# Altium footprint library BMS_Link_Rev0.PcbLib: 16 footprints
Each footprint in its own frame and in the unit in brackets; x right, y up, seen from the top. Pads: shape width x height; smd on the part's side, far side on the other; paste and mask are expansions set on the pad; w line width, h text height; cw(c..) or ccw(c..) is an arc to the next point about the centre after c.
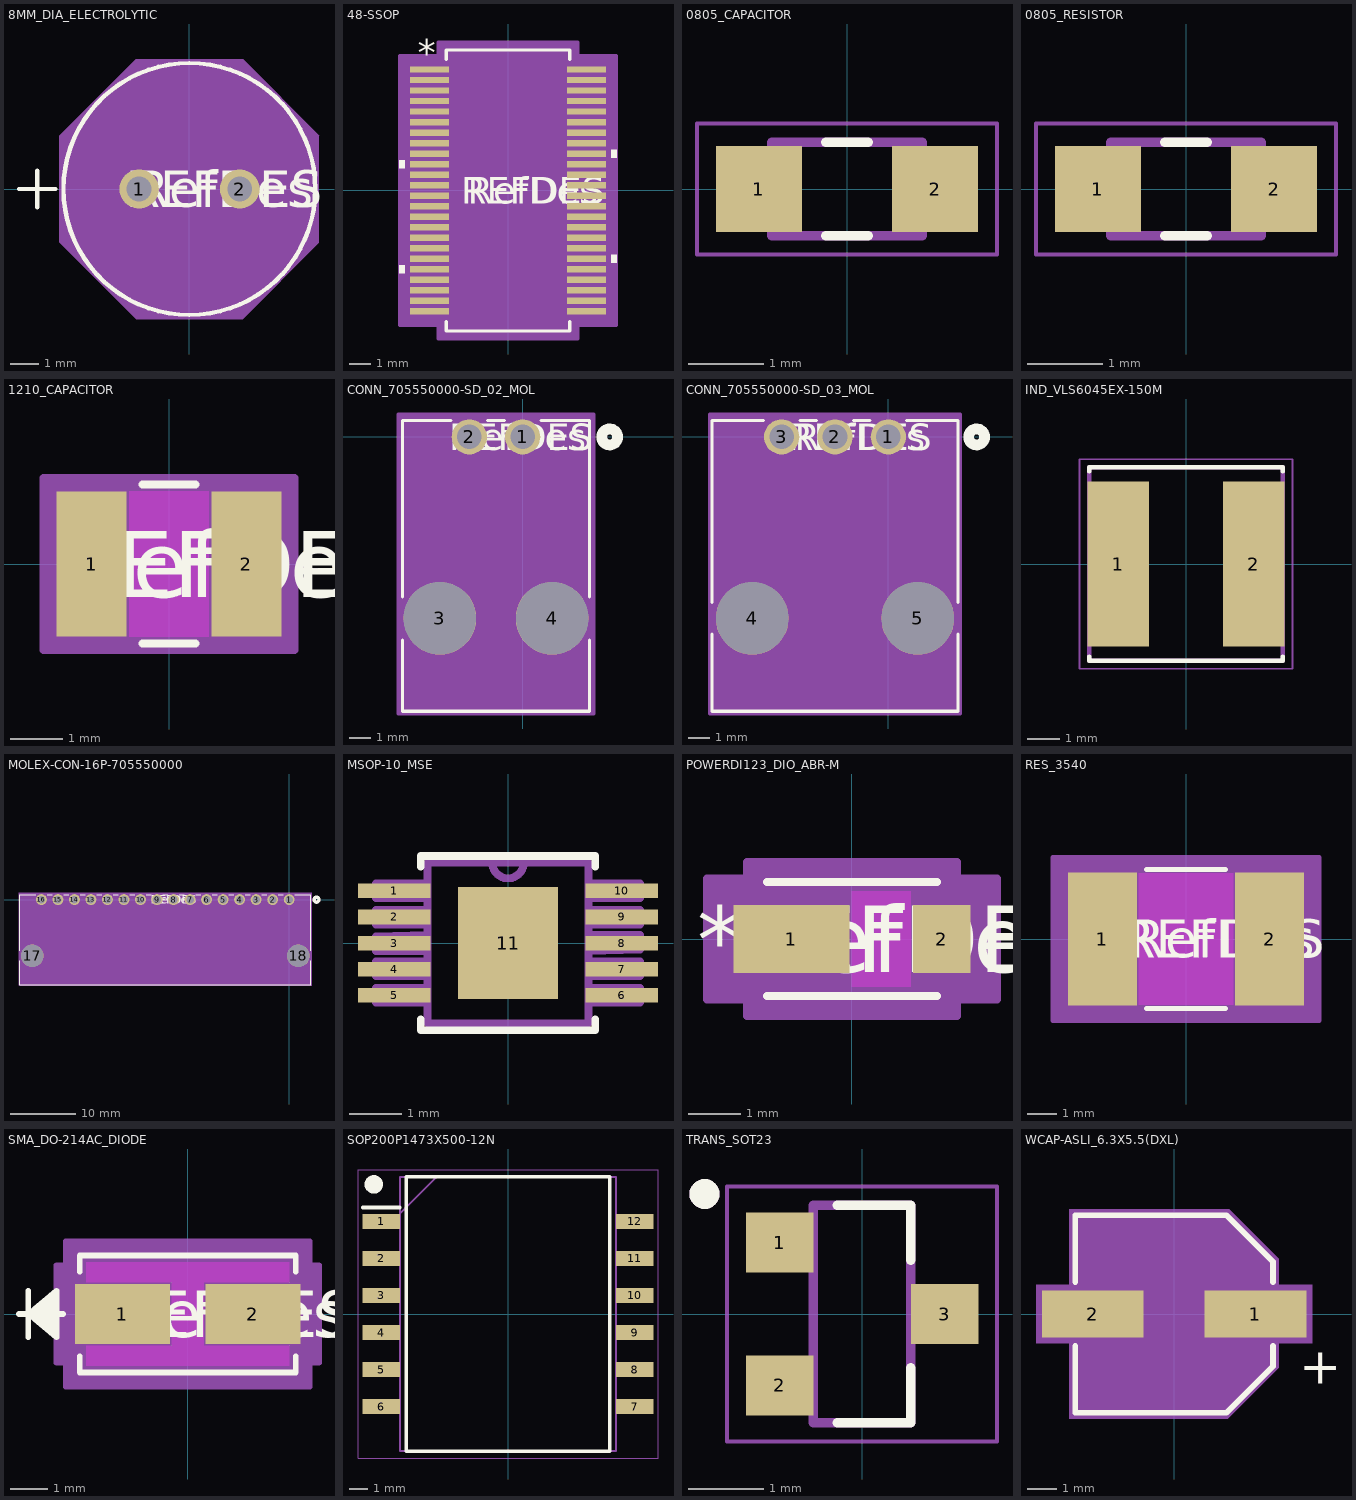
[diagram p0: the footprints below, top view; thin cyan lines are the x and y axes]

## 8MM_DIA_ELECTROLYTIC [mil] "Used by: / - 50YXJ100MT78X11.5 /  / 8 mm diameter by 11 mm height electrolytic capacitor footprint. 3.5 mm inter-pin spacing."
pads (2):
  round 54 / inner round 60 / far side round 54 hole 34 paste-99999 mask+0: 1(-69.02,0) 2(68.78,0)
Top Overlay:
  circle w6: c-0.12,0 r172.5
  lines w6: -233.52,0 -183.52,0 ; -208.52,-25 -208.52,25
  text "RefDes" at -75.12,-25 h50
  text "REFDES" at -87.62,-25 h50
Mechanical 13:
  circle w0: c-0.12,0 r167.5
  lines w1: -164.63,0 -114.63,0 ; -139.63,-25 -139.63,25
  text "RefDes2" at -87.62,-25 h50
Mechanical 15:
  region: -177.62,73.09 -73.21,177.5 72.97,177.5 177.38,73.09 177.38,-73.09 72.97,-177.5 -73.21,-177.5 -177.62,-73.09
  lines w1: -177.62,-73.09 -73.21,-177.5 72.97,-177.5 177.38,-73.09 177.38,73.09 72.97,177.5 -73.21,177.5 -177.62,73.09 -177.62,-73.09
3D body "CAP_YX_8X11P5_RUB.step": height 512.6, standoff -172.01, extent -167.6,-167.38 168.42,167.38

## 48-SSOP [mil] "Used By:"
pads (48):
  rect 72.65x12 smd paste+0 mask+0: 1(-146.83,226.38) 2(-146.83,206.69) 3(-146.83,187.01) 4(-146.83,167.32) 5(-146.83,147.64) 6(-146.83,127.95) 7(-146.83,108.27) 8(-146.83,88.58) 9(-146.83,68.9) 10(-146.83,49.21) 11(-146.83,29.53) 12(-146.83,9.84) 13(-146.83,-9.84) 14(-146.83,-29.53) 15(-146.83,-49.21) 16(-146.83,-68.9) 17(-146.83,-88.58) 18(-146.83,-108.27) 19(-146.83,-127.95) 20(-146.83,-147.64) 21(-146.83,-167.32) 22(-146.83,-187.01) 23(-146.83,-206.69) 24(-146.83,-226.38) 25(146.83,-226.38) 26(146.83,-206.69) 27(146.83,-187.01) 28(146.83,-167.32) 29(146.83,-147.64) 30(146.83,-127.95) 31(146.83,-108.27) 32(146.83,-88.58) 33(146.83,-68.9) 34(146.83,-49.21) 35(146.83,-29.53) 36(146.83,-9.84) 37(146.83,9.84) 38(146.83,29.53) 39(146.83,49.21) 40(146.83,68.9) 41(146.83,88.58) 42(146.83,108.27) 43(146.83,127.95) 44(146.83,147.64) 45(146.83,167.32) 46(146.83,187.01) 47(146.83,206.69) 48(146.83,226.38)
Top Overlay:
  region: -193.15,56.71 -203.15,56.71 -203.15,41.71 -193.15,41.71
  region: -193.15,-140.14 -203.15,-140.14 -203.15,-155.14 -193.15,-155.14
  region: 193.15,-120.45 203.15,-120.45 203.15,-135.45 193.15,-135.45
  region: 193.15,76.4 203.15,76.4 203.15,61.4 193.15,61.4
  lines w6: -115.5,-245.48 -115.5,-263 115.5,-263 115.5,-245.48 ; -115.5,245.48 -115.5,263 115.5,263 115.5,245.48
  text "*" at -169.33,233.38 h50
  text "RefDes" at -75,-25 h50
  text "REFDES" at -87.5,-25 h50
Mechanical 13:
  drawing of 197 lines, arcs and shapes, not listed
  text "*" at -108,205 h50
  text "RefDes2" at -87.5,-25 h50
Mechanical 15:
  region: -130.5,-252.38 -203.15,-252.38 -203.15,252.38 -130.5,252.38 -130.5,278 130.5,278 130.5,252.38 203.15,252.38 203.15,-252.38 130.5,-252.38 130.5,-278 -130.5,-278
  lines w6: -203.15,-252.38 -203.15,252.38 -130.5,252.38 -130.5,278 130.5,278 130.5,252.38 203.15,252.38 203.15,-252.38 130.5,-252.38 130.5,-278 -130.5,-278 -130.5,-252.38 -203.15,-252.38
3D body "05-08-1887_ADI.step": height 79.09, standoff 0, extent -161.5,-257.99 161.5,257.99

## 0805_CAPACITOR [mm]
pads (2):
  rect 1.15x1.15 smd: 1(-1.175,0) 2(1.175,0)
Top Overlay:
  lines w0.127: -0.28,-0.625 0.28,-0.625 ; -0.28,0.625 0.28,0.625
Mechanical 13:
  lines w0.127: -1,-0.625 -1,0.625 1,0.625 1,-0.625 -1,-0.625
Mechanical 15:
  lines w0.05: -2,-0.875 -2,0.875 2,0.875 2,-0.875 -2,-0.875
3D body "0805_CAPACITOR.STEP": height 0.75, standoff 0, extent -1,-0.625 1,0.625

## 0805_RESISTOR [mm] "Default 0805 (2012 Metric) resistor PCB component."
pads (2):
  rect 1.15x1.15 smd: 1(-1.175,0) 2(1.175,0)
Top Overlay:
  lines w0.127: -0.28,-0.625 0.28,-0.625 ; -0.28,0.625 0.28,0.625
Mechanical 13:
  lines w0.127: -1,-0.625 -1,0.625 1,0.625 1,-0.625 -1,-0.625
Mechanical 15:
  lines w0.05: -2,-0.875 -2,0.875 2,0.875 2,-0.875 -2,-0.875
3D body "ERA-6AEB1183V.step": height 0.6, standoff 0, extent -1,-0.625 1,0.625

## 1210_CAPACITOR [mil]
pads (2):
  rect 53x110 smd paste+0 mask+0: 1(-58.5,0) 2(58.5,0)
Top Layer keep-out:
  region: -30,-53 -30,53 30,53 30,-53
Top Overlay:
  lines w6: -19.89,-60 19.89,-60 ; -19.89,60 19.89,60
  text "REFDES" at -87.5,-25 h50
  text "RefDes" at -75,-25 h50
Keep-Out Layer:
  region: -30,-55 -30,55 30,55 30,-55
Mechanical 13:
  lines w1: -71,-55 -71,55 ; -71,-55 71,-55 ; -71,-55 -32,-55 -32,55 -71,55 ; -71,-55 -71,55 ; -71,55 71,55 ; 71,-55 71,55 ; 71,-55 71,55 ; 71,-55 32,-55 32,55 71,55
  text "RefDes2" at -87.5,-25 h50
Mechanical 15:
  region: 95,-65 -95,-65 -95,65 95,65
  lines w6: -95,-65 95,-65 95,65 -95,65 -95,-65
3D body "CAP_CL32B_SAM.step": height 110, standoff 0, extent -70.98,-55 70.98,55

## CONN_705550000-SD_02_MOL [mil]
pads (4):
  round 66 / inner round 60 / far side round 66 hole 46 paste-99999 mask+0: 1(0,0) 2(-100,0)
  round 136 / inner round 60 / far side round 136 hole 136 unplated paste-99999 mask+0: 3(-155.12,-340.16) 4(55.12,-340.16)
Top Overlay:
  circle w20: c163.12,0 r15
  lines w6: -225.5,-380.45 -225.5,-514.41 125.5,-514.41 125.5,-380.45 ; -225.5,-299.86 -225.5,30.59 -134.49,30.59 ; -65.51,30.59 -34.49,30.59 ; 34.49,30.59 125.5,30.59 125.5,-299.86
  text "REFDES" at -137.5,-25 h50
  text "RefDes" at -125,-25 h50
Bottom Overlay:
  circle w20: c163.12,0 r15
Mechanical 13:
  circle w20: c0,0 r15
  lines w1: -220.5,-509.41 -220.5,25.59 120.5,25.59 120.5,-509.41 -220.5,-509.41
  text "RefDes2" at -137.5,-25 h50
Mechanical 15:
  region: 133.12,43 -233.12,43 -233.12,-519.41 133.12,-519.41
  lines w6: -233.12,-519.41 133.12,-519.41 133.12,43 -233.12,43 -233.12,-519.41
3D body "705550001.stp": height 278.11, standoff -126.89, extent -214.21,-508.46 115.79,26.54

## CONN_705550000-SD_03_MOL [mil]
pads (5):
  round 66 / inner round 60 / far side round 66 hole 46 paste-99999 mask+0: 1(0,0) 2(-100,0) 3(-200,0)
  round 136 / inner round 60 / far side round 136 hole 136 unplated paste-99999 mask+0: 4(-255.12,-340.16) 5(55.12,-340.16)
Top Overlay:
  circle w20: c165.5,0 r15
  lines w6: -330.5,-370.07 -330.5,-514.41 130.5,-514.41 130.5,-370.07 ; -330.5,-310.24 -330.5,30.59 -234.49,30.59 ; -165.51,30.59 -134.49,30.59 ; -65.51,30.59 -34.49,30.59 ; 34.49,30.59 130.5,30.59 130.5,-310.24
  text "RefDes" at -175,-25 h50
  text "REFDES" at -187.5,-25 h50
Bottom Overlay:
  circle w20: c165.5,0 r15
Mechanical 13:
  circle w20: c0,0 r15
  lines w1: -325.5,-509.41 125.5,-509.41 125.5,25.59 -325.5,25.59 -325.5,-509.41
  text "RefDes2" at -187.5,-25 h50
Mechanical 15:
  region: 135.5,43 -335.5,43 -335.5,-519.41 135.5,-519.41
  lines w6: -335.5,-519.41 -335.5,43 135.5,43 135.5,-519.41 -335.5,-519.41
3D body "705550002.stp": height 278.11, standoff -126.89, extent -323.43,-508.46 126.57,26.54

## IND_VLS6045EX-150M [mm]
height 4.5
pads (2):
  rect 1.9x5.1 smd: 1(-2.1,0) 2(2.1,0)
Top Overlay:
  lines w0.127: -3,-2.87 -3,-3 3,-3 3,-2.87 ; -3,2.87 -3,3 3,3 3,2.87
Mechanical 13:
  lines w0.127: -3,-3 -3,3 3,3 3,-3 -3,-3
Mechanical 15:
  lines w0.05: -3.3,-3.25 -3.3,3.25 3.3,3.25 3.3,-3.25 -3.3,-3.25
3D body "step_temp.STEP": height 4.5, standoff 0, extent -3,-3 3,3

## MOLEX-CON-16P-705550000 [mil]
pads (18):
  round 66 / inner round 60 / far side round 66 hole 46 paste-99999 mask+0: 1(0,0) 2(-100,0) 3(-200,0) 4(-300,0) 5(-400,0) 6(-500,0) 7(-600,0) 8(-700,0) 9(-800,0) 10(-900,0) 11(-1000,0) 12(-1100,0) 13(-1200,0) 14(-1300,0) 15(-1400,0) 16(-1500,0)
  round 136 / inner round 60 / far side round 136 hole 136 unplated paste-99999 mask+0: 17(-1555.12,-340.16) 18(55.12,-340.16)
Top Overlay:
  circle w20: c165.5,0 r15
  lines w6: -1630.5,-370.07 -1630.5,-514.41 130.5,-514.41 130.5,-370.07 ; -1630.5,-310.24 -1630.5,30.59 -1534.49,30.59 ; -1465.51,30.59 -1434.49,30.59 ; -1365.51,30.59 -1334.49,30.59 ; -1265.51,30.59 -1234.49,30.59 ; -1165.51,30.59 -1134.49,30.59 ; -1065.51,30.59 -1034.49,30.59 ; -965.51,30.59 -934.49,30.59 ; -865.51,30.59 -834.49,30.59 ; -765.51,30.59 -734.49,30.59 ; -665.51,30.59 -634.49,30.59 ; -565.51,30.59 -534.49,30.59 ; -465.51,30.59 -434.49,30.59 ; -365.51,30.59 -334.49,30.59 ; -265.51,30.59 -234.49,30.59 ; -165.51,30.59 -134.49,30.59 ; -65.51,30.59 -34.49,30.59 ; 34.49,30.59 130.5,30.59 130.5,-310.24
  text "RefDes" at -825,-25 h50
  text "REFDES" at -837.5,-25 h50
Bottom Overlay:
  circle w20: c165.5,0 r15
Mechanical 13:
  circle w20: c0,0 r15
  lines w1: -1625.5,-509.41 125.5,-509.41 125.5,25.59 -1625.5,25.59 -1625.5,-509.41
  text "RefDes2" at -837.5,-25 h50
Mechanical 15:
  region: 135.5,43 -1635.5,43 -1635.5,-519.41 135.5,-519.41
  lines w6: -1635.5,-519.41 -1635.5,43 135.5,43 135.5,-519.41 -1635.5,-519.41
3D body "705550015.stp": height 238.74, standoff -166.26, extent -1626.37,-506.96 123.63,28.04

## MSOP-10_MSE [mil] "Used By:  / - LT3991EMSE-5"
pads (11):
  rect 55x11 smd: 1(-86,39.4) 2(-86,19.7) 3(-86,0) 4(-86,-19.7) 5(-86,-39.4) 6(86,-39.4) 7(86,-19.7) 8(86,0) 9(86,19.7) 10(86,39.4)
  rect 76x85 smd: 11(0,0)
Top Overlay:
  lines w6: -66,-58 -66,-66 66,-66 66,-58 ; -66,58 -66,66 66,66 66,58
Mechanical 13:
  lines w6: -12,61 ccw(c0,61) 12,61 ; -12,61 -61,61 -61,-61 61,-61 61,61 12,61 ; -12,61 12,61 ; -100,-45 -61,-45 -61,-34 -100,-34 -100,-45 ; -100,-25 -61,-25 -61,-14 -100,-14 -100,-25 ; -100,-6 -61,-6 -61,6 -100,5 -100,-6 ; -100,14 -61,14 -61,25 -100,25 -100,14 ; -100,34 -61,34 -61,45 -100,45 -100,34 ; 61,-45 100,-45 100,-34 61,-34 61,-45 ; 61,-25 100,-25 100,-14 61,-14 61,-25 ; 61,-6 100,-5 100,6 61,6 61,-6 ; 61,14 100,14 100,25 61,25 61,14 ; 61,34 100,34 100,45 61,45 61,34
3D body "step_temp.STEP": height 43.31, standoff 0, extent -96.46,-59.06 96.46,59.06

## POWERDI123_DIO_ABR-M [mil] "Used By:  / - DFLS2100Q-7"
pads (2):
  rect 87x51 smd paste+0 mask+0: 1(-45.5,0)
  rect 43x51 smd paste+0 mask+0: 2(67.5,0)
Top Layer keep-out:
  region: 0,-36 0,36 44,36 44,-36
Top Overlay:
  lines w6: -64,-43 64,-43 ; -64,43 64,43
  text "RefDes" at -75,-25 h50
  text "*" at -116.5,-25 h50
  text "REFDES" at -87.5,-25 h50
Keep-Out Layer:
  region: 0,-36 0,36 44,36 44,-36
Mechanical 13:
  lines w1: -59,-19 -40,-38 ; -59,19 -40,38 ; -77,-24.5 -59,-24.5 -59,24.5 -77,24.5 -77,-24.5 ; -59,-38 -59,38 59,38 59,-38 -59,-38 ; 59,-24.5 77,-24.5 77,24.5 59,24.5 59,-24.5
  text "RefDes2" at -87.5,-25 h50
  text "*" at -61.5,-25 h50
Mechanical 15:
  region: -79,-45.5 -109,-45.5 -109,45.5 -79,45.5 -79,58 79,58 79,45.5 109,45.5 109,-45.5 79,-45.5 79,-58 -79,-58
  lines w6: -109,-45.5 -79,-45.5 -79,-58 79,-58 79,-45.5 109,-45.5 109,45.5 79,45.5 79,58 -79,58 -79,45.5 -109,45.5 -109,-45.5
3D body "POWERDI123_DIO_ABR.step": height 32.09, standoff 0, extent -77.01,-37.99 77.01,37.99

## RES_3540 [mil]
pads (2):
  rect 91x175 smd paste+0 mask+0: 1(-110,0) 2(110,0)
Top Layer keep-out:
  region: -62.5,-84.5 -62.5,84.5 62.5,84.5 62.5,-84.5
Top Overlay:
  lines w6: -52.03,-91.5 52.03,-91.5 ; -52.03,91.5 52.03,91.5
  text "REFDES" at -87.5,-25 h50
  text "RefDes" at -75,-25 h50
Keep-Out Layer:
  region: -62.5,-86.5 -62.5,86.5 62.5,86.5 62.5,-86.5
Mechanical 13:
  lines w1: -143.5,-86.5 -143.5,86.5 ; -143.5,-86.5 143.5,-86.5 ; -143.5,-86.5 -64.5,-86.5 -64.5,86.5 -143.5,86.5 ; -143.5,-86.5 -143.5,86.5 ; -143.5,86.5 143.5,86.5 ; 143.5,-86.5 143.5,86.5 ; 143.5,-86.5 143.5,86.5 ; 143.5,-86.5 64.5,-86.5 64.5,86.5 143.5,86.5
  text "RefDes2" at -87.5,-25 h50
Mechanical 15:
  region: 175.5,-107.5 -175.5,-107.5 -175.5,107.5 175.5,107.5
  lines w6: -175.5,-107.5 175.5,-107.5 175.5,107.5 -175.5,107.5 -175.5,-107.5
3D body "RES_3540_TEC.step": height 47.01, standoff 0, extent -143.5,-86.5 143.5,86.5

## SMA_DO-214AC_DIODE [mm]
pads (2):
  rect 2.561x1.63 smd paste+0 mask+0: 1(-1.768,0) 2(1.768,0)
Top Layer keep-out:
  region: -2.744,-1.409 -2.744,-0.866 2.744,-0.866 2.744,-1.409
  region: -2.744,0.866 -2.744,1.409 2.744,1.409 2.744,0.866
  region: -0.437,-0.866 -0.437,0.866 0.437,0.866 0.437,-0.866
Top Overlay:
  lines w0.152: -4.573,0 -3.382,0 ; -4.319,-0.635 -4.319,0.635 ; -3.557,-0.508 -4.319,0 ; -3.557,-0.381 -4.319,0 ; -3.557,-0.254 -4.319,0 ; -3.557,-0.127 -4.319,0 ; -3.557,0.127 -4.319,0 ; -3.557,0.254 -4.319,0 ; -3.557,0.381 -4.319,0 ; -3.557,0.508 -4.319,0 ; -2.922,-1.148 -2.922,-1.587 2.922,-1.587 2.922,-1.148 ; -2.922,1.148 -2.922,1.587 2.922,1.587 2.922,1.148 ; -4.319,0 -3.557,-0.635 -3.557,0.635 -4.319,0
  text "REFDES" at -2.222,-0.635 h1.27
  text "RefDes" at -1.905,-0.635 h1.27
Keep-Out Layer:
  region: -0.437,-0.866 -0.437,0.866 0.437,0.866 0.437,-0.866
Mechanical 13:
  lines w0.025: -4.573,0 -3.303,0 ; -4.319,-0.635 -4.319,0.635 ; -3.557,-0.508 -4.319,0 ; -3.557,-0.381 -4.319,0 ; -3.557,-0.254 -4.319,0 ; -3.557,-0.127 -4.319,0 ; -3.557,0.127 -4.319,0 ; -3.557,0.254 -4.319,0 ; -3.557,0.381 -4.319,0 ; -3.557,0.508 -4.319,0 ; -4.319,0 -3.557,-0.635 -3.557,0.635 -4.319,0 ; -2.795,-1.46 -2.795,1.46 2.795,1.46 2.795,-1.46 -2.795,-1.46
  text "RefDes2" at -2.222,-0.635 h1.27
Mechanical 15:
  region: -3.303,-1.323 -3.557,-1.323 -3.557,1.323 -3.303,1.323 -3.303,1.968 3.303,1.968 3.303,1.323 3.557,1.323 3.557,-1.323 3.303,-1.323 3.303,-1.968 -3.303,-1.968
  lines w0.152: -3.557,-1.323 -3.303,-1.323 -3.303,-1.968 3.303,-1.968 3.303,-1.323 3.557,-1.323 3.557,1.323 3.303,1.323 3.303,1.968 -3.303,1.968 -3.303,1.323 -3.557,1.323 -3.557,-1.323
3D body "SMA_DIO.step": height 2.35, standoff 0, extent -2.795,-1.46 2.795,1.46

## SOP200P1473X500-12N [mm]
pads (12):
  rect 2.01x0.8 smd: 1(-6.845,5) 2(-6.845,3) 3(-6.845,1) 4(-6.845,-1) 5(-6.845,-3) 6(-6.845,-5) 7(6.845,-5) 8(6.845,-3) 9(6.845,-1) 10(6.845,1) 11(6.845,3) 12(6.845,5)
Top Overlay:
  circle w0.5: c-7.25,7 r0.25
  lines w0.2: -7.85,5.75 -5.84,5.75 ; -5.49,-7.405 -5.49,7.405 5.49,7.405 5.49,-7.405 -5.49,-7.405
Mechanical 15:
  lines w0.1: -5.84,5.405 -3.84,7.405 ; -5.84,-7.405 -5.84,7.405 5.84,7.405 5.84,-7.405 -5.84,-7.405
Mechanical 20:
  lines w0.05: -8.1,-7.78 -8.1,7.78 8.1,7.78 8.1,-7.78 -8.1,-7.78
3D body "SM91501ALE.stp": height 5, standoff 0, extent -7.365,-7.405 7.365,7.405

## TRANS_SOT23 [mm] "Used by:  BSS308PE"
height 1.1
pads (3):
  rect 0.9x0.8 smd: 1(-1.1,0.95) 2(-1.1,-0.95) 3(1.1,0)
Top Overlay:
  circle w0.2: c-2.1,1.6 r0.1
  lines w0.127: -0.33,-1.45 0.65,-1.45 0.65,-0.72 ; -0.33,1.45 0.65,1.45 0.65,0.72
Mechanical 13:
  circle w0.2: c-2.1,1.6 r0.1
  lines w0.127: -0.65,-1.45 -0.65,1.45 0.65,1.45 0.65,-1.45 -0.65,-1.45
Mechanical 15:
  lines w0.05: -1.8,-1.7 1.8,-1.7 1.8,1.7 -1.8,1.7 -1.8,-1.7
3D body "step_temp.STEP": height 1.1, standoff 0, extent -1.3,-1.45 1.3,1.45

## WCAP-ASLI_6.3X5.5(DXL) [mm] "Used by: 865080343009"
pads (2):
  rect 3.5x1.6 smd: 1(2.8,0) 2(-2.8,0)
Top Overlay:
  lines w0.2: -3.4,-1.1 -3.4,-3.4 1.8,-3.4 3.4,-1.8 3.4,-1.1 ; -3.4,1.1 -3.4,3.4 1.8,3.4 3.4,1.8 3.4,1.1
  text "+" at 4.3,-2.4 h1.27
Mechanical 13:
  circle w0.1: c0,0 r3.15
  lines w0.1: -3.3,-3.3 1.75,-3.3 3.3,-1.75 3.3,1.75 1.75,3.3 -3.3,3.3 -3.3,-3.3
  text "+" at 4.3,-2.4 h1.27
Mechanical 15:
  region: 3.6,1.9 3.6,1 4.75,1 4.75,-1 3.6,-1 3.6,-1.85 1.85,-3.6 -3.6,-3.6 -3.6,-1 -4.75,-1 -4.75,1 -3.6,1 -3.6,3.6 1.9,3.6
3D body "STP_WCAP-ASLI_6.3x5.5x2+%28rev1%29.stp": height 5.47, standoff -0.03, extent -3.9,-3.3 3.4,3.3